# EAGLE library part MMA68XX (library Mine)
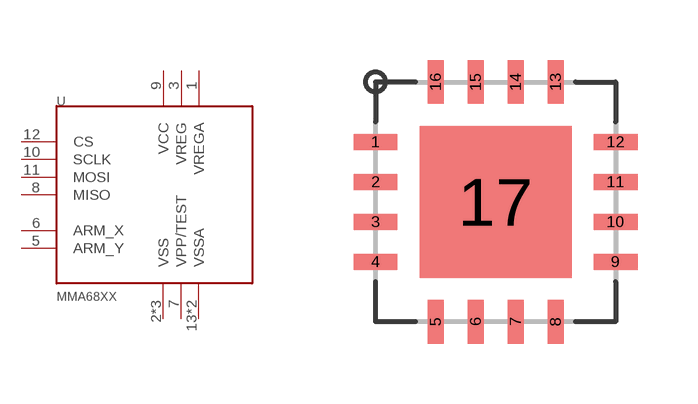
[diagram p59: symbol with the pads of QFN16-6X6; footprint QFN16-6X6]

Designator prefix -

## MMA68XX  [QFN16-6X6]
1  VREGA  pwr
2  VSS  pwr
3  VREG  pwr
4  VSS  pwr
5  ARM_Y  out
6  ARM_X  out
7  VPP/TEST  pwr
8  MISO  out
9  VCC  pwr
10  SCLK  in
11  MOSI  in
12  CS  in
13  VSSA  pwr
16  VSSA  pwr
17  VSS  pwr

## Footprint QFN16-6X6 (pad centres in mm)
smd 1.1 x 0.4: 1 -3,1.5; 2 -3,0.5; 3 -3,-0.5; 4 -3,-1.5; 9 3,-1.5; 10 3,-0.5; 11 3,0.5; 12 3,1.5
smd 0.4 x 1.1: 5 -1.5,-3; 6 -0.5,-3; 7 0.5,-3; 8 1.5,-3; 13 1.5,3; 14 0.5,3; 15 -0.5,3; 16 -1.5,3
smd 3.8 x 3.8: 17 0,0